# Altium footprint library longqiuPCB.PCBLIB: 1 footprints
Each footprint in its own frame and in the unit in brackets; x right, y up, seen from the top. Pads: shape width x height; smd on the part's side, far side on the other; paste and mask are expansions set on the pad; w line width, h text height; cw(c..) or ccw(c..) is an arc to the next point about the centre after c.
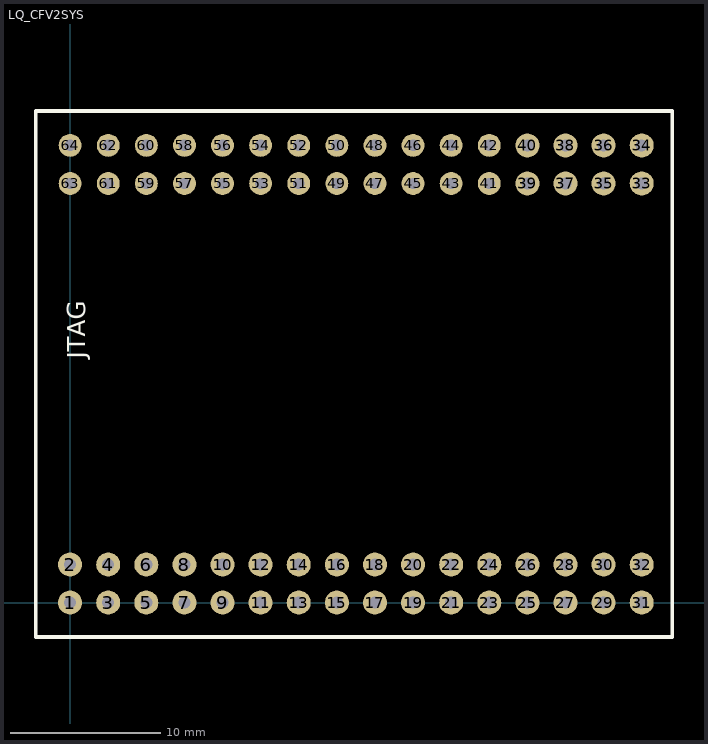
[diagram p0: the footprint, top view; thin cyan lines are the x and y axes]

## LQ_CFV2SYS [mm]
pads (64):
  round 1.6 hole 0.8: 1(0,0) 2(0,2.54) 3(2.54,0) 4(2.54,2.54) 5(5.08,0) 6(5.08,2.54) 7(7.62,0) 8(7.62,2.54) 9(10.16,0) 10(10.16,2.54) 11(12.7,0) 12(12.7,2.54) 13(15.24,0) 14(15.24,2.54) 15(17.78,0) 16(17.78,2.54) 17(20.32,0) 18(20.32,2.54) 19(22.86,0) 20(22.86,2.54) 21(25.4,0) 22(25.4,2.54) 23(27.94,0) 24(27.94,2.54) 25(30.48,0) 26(30.48,2.54) 27(33.02,0) 28(33.02,2.54) 29(35.56,0) 30(35.56,2.54) 31(38.1,0) 32(38.1,2.54) 33(38.1,27.94) 34(38.1,30.48) 35(35.56,27.94) 36(35.56,30.48) 37(33.02,27.94) 38(33.02,30.48) 39(30.48,27.94) 40(30.48,30.48)
  round 1.524 hole 0.762: 41(27.94,27.94) 42(27.94,30.48) 43(25.4,27.94) 44(25.4,30.48) 45(22.86,27.94) 46(22.86,30.48) 47(20.32,27.94) 48(20.32,30.48) 49(17.78,27.94) 50(17.78,30.48) 51(15.24,27.94) 52(15.24,30.48) 53(12.7,27.94) 54(12.7,30.48) 55(10.16,27.94) 56(10.16,30.48) 57(7.62,27.94) 58(7.62,30.48) 59(5.08,27.94) 60(5.08,30.48) 61(2.54,27.94) 62(2.54,30.48) 63(0,27.94) 64(0,30.48)
TopOverlay:
  lines w0.254: -2.286,-2.286 40.132,-2.286 40.132,32.766 -2.286,32.766 -2.286,-2.286
  text "JTAG" at 1.016,16.256 h1.2